# EAGLE library part LTC6813 (library HelaTronix - MIcroControllers)
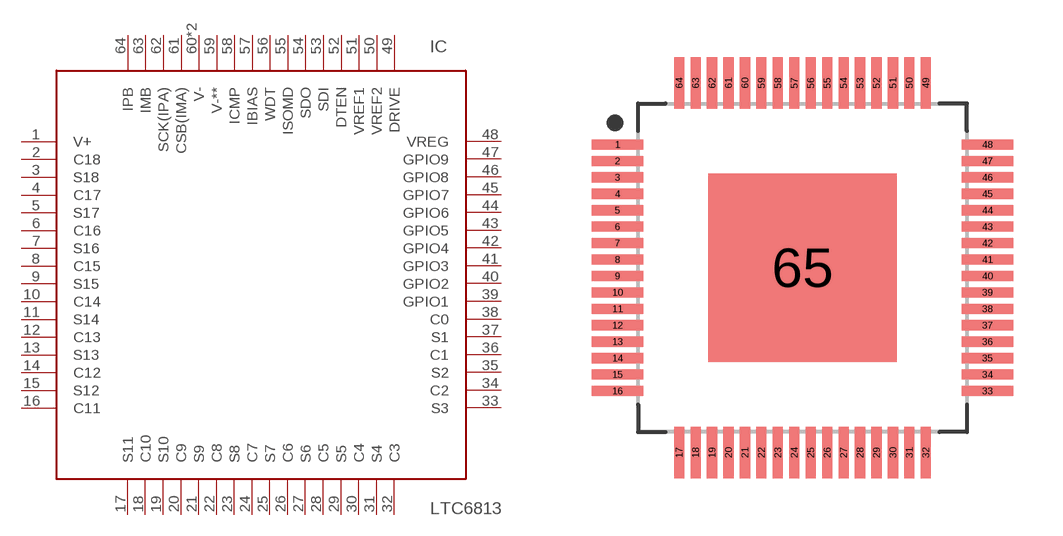
[diagram p0: symbol with the pads of LQFP64-10X10; footprint LQFP64-10X10]

Designator prefix IC

## LTC6813  [LQFP64-10X10]
1  V+
2  C18
3  S18
4  C17
5  S17
6  C16
7  S16
8  C15
9  S15
10  C14
11  S14
12  C13
13  S13
14  C12
15  S12
16  C11
17  S11
18  C10
19  S10
20  C9
21  S9
22  C8
23  S8
24  C7
25  S7
26  C6
27  S6
28  C5
29  S5
30  C4
31  S4
32  C3
33  S3
34  C2
35  S2
36  C1
37  S1
38  C0
39  GPIO1
40  GPIO2
41  GPIO3
42  GPIO4
43  GPIO5
44  GPIO6
45  GPIO7
46  GPIO8
47  GPIO9
48  VREG
49  DRIVE
50  VREF2
51  VREF1
52  DTEN
53  SDI
54  SDO
55  ISOMD
56  WDT
57  IBIAS
58  ICMP
59  V-**
60  V-
61  CSB(IMA)
62  SCK(IPA)
63  IMB
64  IPB
65  V-

## Footprint LQFP64-10X10 (pad centres in mm)
64-QFP, 0.50 mm pitch, 12.00 mm span, 10.00 X 10.00 X 1.60 mm body, 5.74 X 5.74 mm thermal pad 64-pin QFP package with 0.50 mm pitch, 12.00 mm lead span1 X 12.00 mm lead span2 with body size 10.00 X 10.00 X 1.60 mm and thermal pad size 5.74 X 5.74 mm
smd 1.562 x 0.31: 1 -5.625,3.75; 2 -5.625,3.25; 3 -5.625,2.75; 4 -5.625,2.25; 5 -5.625,1.75; 6 -5.625,1.25; 7 -5.625,0.75; 8 -5.625,0.25; 9 -5.625,-0.25; 10 -5.625,-0.75; 11 -5.625,-1.25; 12 -5.625,-1.75; 13 -5.625,-2.25; 14 -5.625,-2.75; 15 -5.625,-3.25; 16 -5.625,-3.75; 33 5.625,-3.75; 34 5.625,-3.25; 35 5.625,-2.75; 36 5.625,-2.25; 37 5.625,-1.75; 38 5.625,-1.25; 39 5.625,-0.75; 40 5.625,-0.25; 41 5.625,0.25; 42 5.625,0.75; 43 5.625,1.25; 44 5.625,1.75; 45 5.625,2.25; 46 5.625,2.75; 47 5.625,3.25; 48 5.625,3.75
smd 0.31 x 1.562: 17 -3.75,-5.625; 18 -3.25,-5.625; 19 -2.75,-5.625; 20 -2.25,-5.625; 21 -1.75,-5.625; 22 -1.25,-5.625; 23 -0.75,-5.625; 24 -0.25,-5.625; 25 0.25,-5.625; 26 0.75,-5.625; 27 1.25,-5.625; 28 1.75,-5.625; 29 2.25,-5.625; 30 2.75,-5.625; 31 3.25,-5.625; 32 3.75,-5.625; 49 3.75,5.625; 50 3.25,5.625; 51 2.75,5.625; 52 2.25,5.625; 53 1.75,5.625; 54 1.25,5.625; 55 0.75,5.625; 56 0.25,5.625; 57 -0.25,5.625; 58 -0.75,5.625; 59 -1.25,5.625; 60 -1.75,5.625; 61 -2.25,5.625; 62 -2.75,5.625; 63 -3.25,5.625; 64 -3.75,5.625
smd 5.74 x 5.74: 65 0,0